# Altium schematic symbol library ADC104S051.SchLib: 1 symbol
Pins are listed as number, name and electrical type; pins without a type are passive.

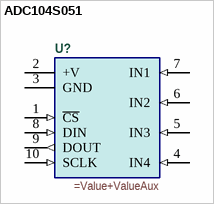
[diagram p0: symbol ADC104S051]

## ADC104S051
designator U?
=Description
pins: 1 ~{CS} (in), 2 +V (power), 3 GND (power), 4 IN4 (in), 5 IN3 (in), 6 IN2 (in), 7 IN1 (in), 8 DIN (in), 9 DOUT (out), 10 SCLK (in)